# EAGLE library part SPDT_2X (library 000_ICS)
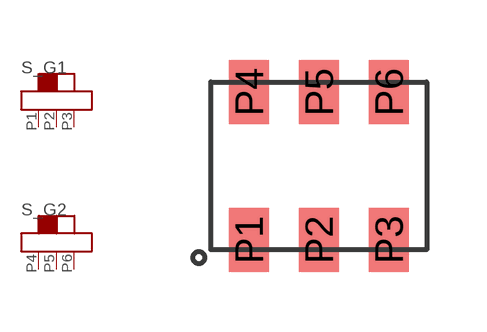
[diagram p10: symbol with the pads of CAS-220-D20; footprint CAS-220-D20]

Designator prefix S; gates _G1=SPDT _G2=SPDT

## SPDT_2XCAS-D20TB (1PC: 2.04; DIGIKEY: CASD20GCT-ND)  [CAS-220-D20]
P1  _G1:NC
P2  _G1:COM
P3  _G1:NO
P4  _G2:NC
P5  _G2:COM
P6  _G2:NO

## Footprint CAS-220-D20 (pad centres in mm)
smd 1 x 1.6: P1 -1.75,-1.85; P2 0,-1.85; P3 1.75,-1.85; P4 -1.75,1.85; P5 0,1.85; P6 1.75,1.85